# Altium schematic symbol library SCH_Screen.SchLib: 4 symbols
Pins are listed as number, name and electrical type; pins without a type are passive.

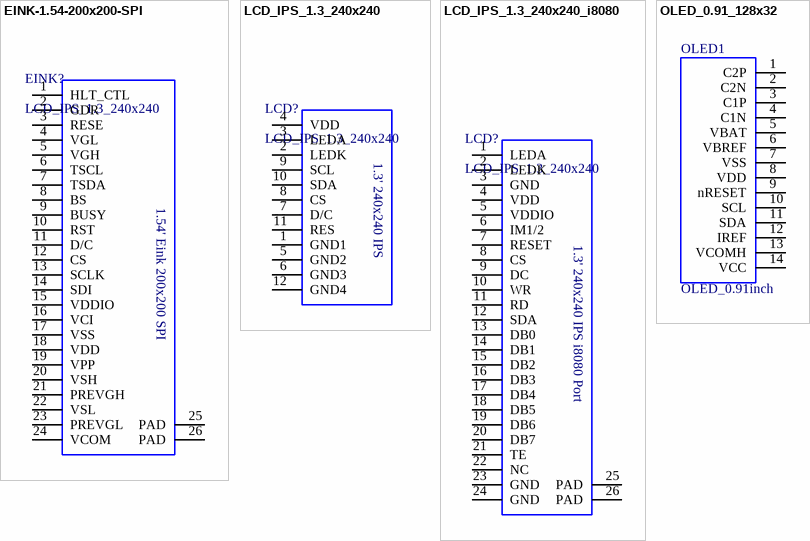
[diagram p0: symbols EINK-1.54-200x200-SPI to OLED_0.91_128x32]

## EINK-1.54-200x200-SPI
designator EINK?, comment LCD_IPS_1.3_240x240
footprint FFC_0.5_24
pins: 1 HLT_CTL, 2 GDR, 3 RESE, 4 VGL, 5 VGH, 6 TSCL, 7 TSDA, 8 BS, 9 BUSY, 10 RST, 11 D/C, 12 CS, 13 SCLK, 14 SDI, 15 VDDIO, 16 VCI, 17 VSS, 18 VDD, 19 VPP, 20 VSH, 21 PREVGH, 22 VSL, 23 PREVGL, 24 VCOM, 25 PAD, 26 PAD
text: 1.54' Eink 200x200 SPI

## LCD_IPS_1.3_240x240
designator LCD?
footprint LCD-IPS-1.3-240x240
pins: 1 GND1, 2 LEDK, 3 LEDA, 4 VDD, 5 GND2, 6 GND3, 7 D/C, 8 CS, 9 SCL, 10 SDA, 11 RES, 12 GND4
text: 1.3' 240x240 IPS

## LCD_IPS_1.3_240x240_i8080
designator LCD?, comment LCD_IPS_1.3_240x240
footprint LCD-IPS-1.3-240x240-i8080
pins: 1 LEDA, 2 LEDK, 3 GND, 4 VDD, 5 VDDIO, 6 IM1/2, 7 RESET, 8 CS, 9 DC, 10 WR, 11 RD, 12 SDA, 13 DB0, 14 DB1, 15 DB2, 16 DB3, 17 DB4, 18 DB5, 19 DB6, 20 DB7, 21 TE, 22 NC, 23 GND, 24 GND, 25 PAD, 26 PAD
text: 1.3' 240x240 IPS i8080 Port

## OLED_0.91_128x32
designator OLED1, comment OLED_0.91inch
footprint OLED_0.91_128x32
pins: 1 C2P, 2 C2N, 3 C1P, 4 C1N, 5 VBAT, 6 VBREF, 7 VSS, 8 VDD, 9 nRESET, 10 SCL, 11 SDA, 12 IREF, 13 VCOMH, 14 VCC